# Altium schematic symbol library TPS56637RPAR.SchLib: 1 symbol
Pins are listed as number, name and electrical type; pins without a type are passive.

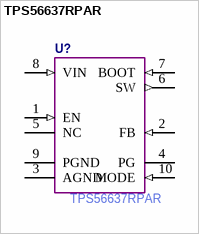
[diagram p0: symbol TPS56637RPAR]

## TPS56637RPAR
designator U?
Switching Voltage Regulators 4.5-V to 28-V input, 6-A synchronous buck converter with ULQ-mode 10-VQFN-HR -40 to 125; Manufacturer Part Number: TPS56637RPAR
pins: 1 EN (in), 2 FB (in), 3 AGND, 4 PG (oc), 5 NC, 6 SW (out), 7 BOOT (in), 8 VIN (in), 9 PGND, 10 MODE (in)